# Altium schematic symbol library TipoC.SchLib: 1 symbol
Pins are listed as number, name and electrical type; pins without a type are passive.

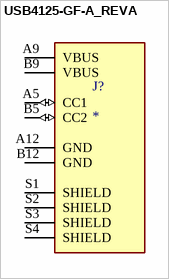
[diagram p0: symbol USB4125-GF-A_REVA]

## USB4125-GF-A_REVA
designator J?
USB 2.0 Type C Receptacle, Horizontal, SMT, For Power charging; MP: USB4125-GF-A; MF: Global Connector Technology; SnapEDA_Link: https://www.snapeda.com/parts/USB4125-GF-A/Global%20Connector%20Technology/view-part/5160675/?ref=snap; Package: None; Check_prices: https://www.snapeda.com/parts/USB4125-GF-A/Global%20Connector%20Technology/view-part/5160675/?ref=eda; Value: *; Availability: Unavailable; Price: None
footprint GCT_USB4125-GF-A_REVA
pins: A5 CC1 (io), A9 VBUS (power), A12 GND (power), B5 CC2 (io), B9 VBUS (power), B12 GND (power), S1 SHIELD, S2 SHIELD, S3 SHIELD, S4 SHIELD